# EAGLE library part XR-T5690P (library exar)
T1/ISDN PRIMARY RATE FRAMER
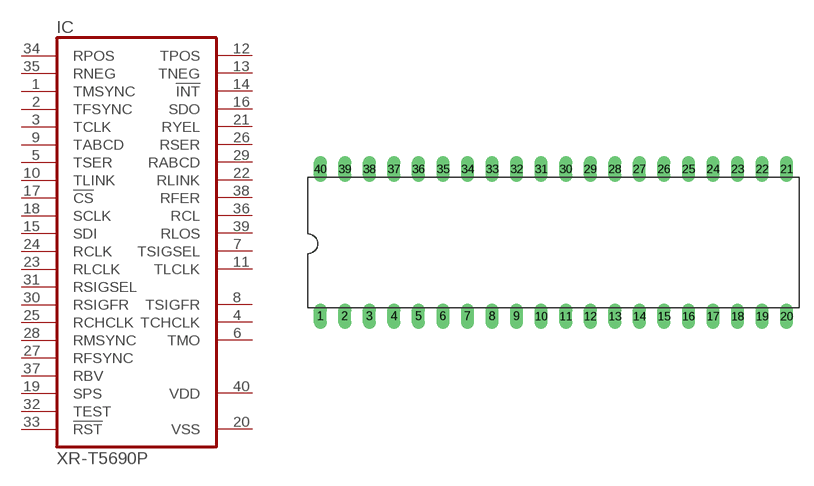
[diagram p24: symbol with the pads of DIL40; footprint DIL40]

Designator prefix IC

## XR-T5690P  [DIL40]
1  TMSYNC  in
2  TFSYNC  in
3  TCLK  in
4  TCHCLK  out
5  TSER  in
6  TMO  out
7  TSIGSEL  out
8  TSIGFR  out
9  TABCD  in
10  TLINK  in
11  TLCLK  out
12  TPOS  out
13  TNEG  out
14  !INT  out
15  SDI  in
16  SDO  out
17  !CS  in
18  SCLK  in
19  SPS  in
20  VSS  pwr
21  RYEL  out
22  RLINK  out
23  RLCLK  in
24  RCLK  in
25  RCHCLK  in
26  RSER  out
27  RFSYNC  in
28  RMSYNC  in
29  RABCD  out
30  RSIGFR  in
31  RSIGSEL  in
32  TEST  in
33  !RST  in
34  RPOS  in
35  RNEG  in
36  RCL  out
37  RBV  in
38  RFER  out
39  RLOS  out
40  VDD  pwr

## Footprint DIL40 (pad centres in mm)
Dual In Line Package
drill 0.813 long: 1 -24.13,-7.62; 2 -21.59,-7.62; 3 -19.05,-7.62; 4 -16.51,-7.62; 5 -13.97,-7.62; 6 -11.43,-7.62; 7 -8.89,-7.62; 8 -6.35,-7.62; 9 -3.81,-7.62; 10 -1.27,-7.62; 11 1.27,-7.62; 12 3.81,-7.62; 13 6.35,-7.62; 14 8.89,-7.62; 15 11.43,-7.62; 16 13.97,-7.62; 17 16.51,-7.62; 18 19.05,-7.62; 19 21.59,-7.62; 20 24.13,-7.62; 21 24.13,7.62; 22 21.59,7.62; 23 19.05,7.62; 24 16.51,7.62; 25 13.97,7.62; 26 11.43,7.62; 27 8.89,7.62; 28 6.35,7.62; 29 3.81,7.62; 30 1.27,7.62; 31 -1.27,7.62; 32 -3.81,7.62; 33 -6.35,7.62; 34 -8.89,7.62; 35 -11.43,7.62; 36 -13.97,7.62; 37 -16.51,7.62; 38 -19.05,7.62; 39 -21.59,7.62; 40 -24.13,7.62